# Altium schematic symbol library Header_Harwin_M50-3530242_2POS.SchLib: 1 symbol
Pins are listed as number, name and electrical type; pins without a type are passive.

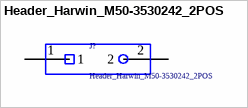
[diagram p0: symbol Header_Harwin_M50-3530242_2POS]

## Header_Harwin_M50-3530242_2POS
designator J?
Headers & Wire Housings 2 WAY SIL VERT PC TAIL P/HDR; Supplier 1: Mouser; Supplier Part Number 1: 855-M50-3530242
footprint Header_Harwin_M50-3530242_2POS (Headers & Wire Housings 2 WAY SIL VERT PC TAIL P/HDR)
pins: 1, 2